# Altium footprint library DS-1013-08-R.PcbLib: 1 footprints
Each footprint in its own frame and in the unit in brackets; x right, y up, seen from the top. Pads: shape width x height; smd on the part's side, far side on the other; paste and mask are expansions set on the pad; w line width, h text height; cw(c..) or ccw(c..) is an arc to the next point about the centre after c.
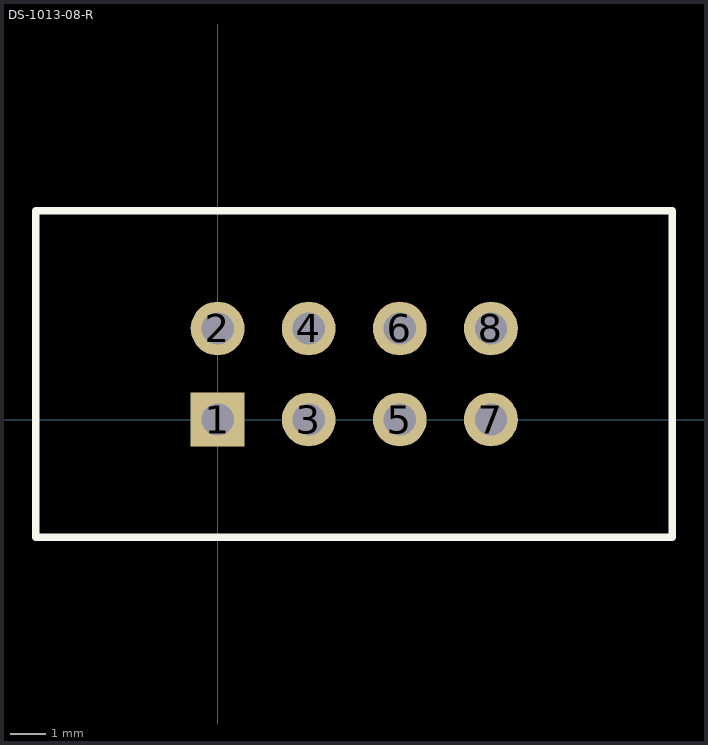
[diagram p0: the footprint, top view; thin cyan lines are the x and y axes]

## DS-1013-08-R [mm] "2.54mm Box Header R/A"
pads (8):
  rect 1.5x1.5 hole 0.9: 1(0,0)
  round 1.5 hole 0.9: 2(0,2.54) 3(2.54,0) 4(2.54,2.54) 5(5.08,0) 6(5.08,2.54) 7(7.62,0) 8(7.62,2.54)
Top Overlay:
  lines w0.2: -5.07,-3.28 -5.07,5.82 12.675,5.82 12.675,-3.28 -5.07,-3.28
3D body "DS1013-8R (IDC-8R CONNFLY).STEP": height 8.9, standoff -3, extent -5.18,-11.175 12.78,2.845